# Altium integrated library Edge Connector.IntLib: 1 symbol
Pins are listed as number, name and electrical type; pins without a type are passive.

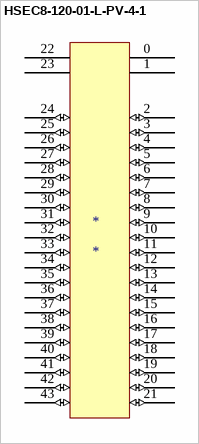
[diagram p0: symbol HSEC8-120-01-L-PV-4-1]

## HSEC8-120-01-L-PV-4-1
designator *
Supplier 1: Mouser
footprint HSEC8-120-01-L-PV-4-1
footprint HSEC8-120-01-L-PV-4-1 Gold Fingers
pins: 0 (power), 1 0 (power), 2 0 (io), 3 0 (io), 4 0 (io), 5 0 (io), 6 0 (io), 7 0 (io), 8 0 (io), 9 0 (io), 10 0 (io), 11 0 (io), 12 0 (io), 13 0 (io), 14 0 (io), 15 0 (io), 16 0 (io), 17 0 (io), 18 0 (io), 19 0 (io), 20 0 (io), 21 0 (io), 22 0 (power), 23 (power), 24 (io), 25 (io), 26 (io), 27 (io), 28 (io), 29 (io), 30 (io), 31 (io), 32 (io), 33 (io), 34 (io), 35 (io), 36 (io), 37 (io), 38 (io), 39 (io), 40 (io), 41 (io), 42 (io), 43 (io)